# Altium schematic symbol library Fairy Light Sch Lib.SchLib: 1 symbol
Pins are listed as number, name and electrical type; pins without a type are passive.

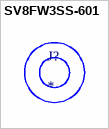
[diagram p0: symbol SV8FW3SS-601]

## SV8FW3SS-601
designator J?
MPN: SV8FW3SS-601
footprint SV8FW3SS-601